# EAGLE library part MAX98357A (library FaBo-Sound)
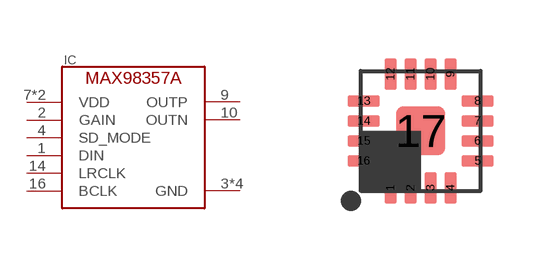
[diagram p2: symbol with the pads of MAX98357A; footprint MAX98357A]

Designator prefix IC

## MAX98357A  [MAX98357A]
1  DIN
2  GAIN
3  GND
4  SD_MODE
7  VDD
8  VDD
9  OUTP
10  OUTN
11  GND
14  LRCLK
15  GND
16  BCLK
17  GND

## Footprint MAX98357A (pad centres in mm)
smd 0.3 x 0.8: 1 -0.75,-1.425; 2 -0.25,-1.425; 3 0.25,-1.425; 4 0.75,-1.425; 9 0.75,1.425; 10 0.25,1.425; 11 -0.25,1.425; 12 -0.75,1.425
smd 0.8 x 0.3: 5 1.425,-0.75; 6 1.425,-0.25; 7 1.425,0.25; 8 1.425,0.75; 13 -1.425,0.75; 14 -1.425,0.25; 15 -1.425,-0.25; 16 -1.425,-0.75
smd 1.23 x 1.23: 17 0,0